# EAGLE library part MOLEX-6 (library Molex_2)
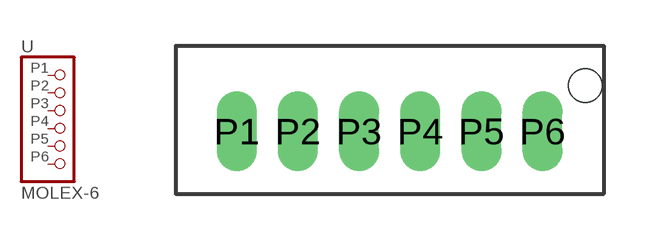
[diagram p0: symbol with the pads of MOLEX-6; footprint MOLEX-6]

Designator prefix -

## MOLEX-6  [MOLEX-6]
P1  1  pas
P2  2  pas
P3  3  pas
P4  4  pas
P5  5  pas
P6  6  pas

## Footprint MOLEX-6 (pad centres in mm)
drill 0.8 pad 1.2 long: P1 -8,0; P2 -6,0; P3 -4,0; P4 -2,0; P5 0,0; P6 2,0
hole 1.1 at 3.4,1.5